# EAGLE library part N25Q064A13ESE40E (library micron-flash)
8-SOIC NMOSFET
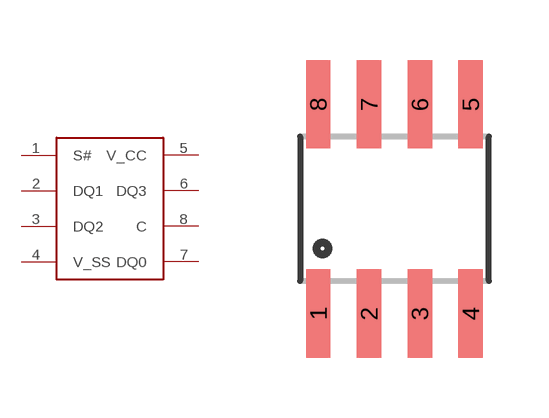
[diagram p0: symbol with the pads of SOIC08; footprint SOIC08]

Designator prefix -

## N25Q064A13ESE40E  [SOIC08]
1  S#
2  DQ1
3  DQ2
4  V_SS
5  V_CC
6  DQ3
7  DQ0
8  C

## Footprint SOIC08 (pad centres in mm)
Small Outline Package Fits JEDEC packages (narrow SOIC-8)
smd 0.61 x 2.21: 1 -1.905,-2.616; 2 -0.635,-2.616; 3 0.635,-2.616; 4 1.905,-2.616; 5 1.905,2.616; 6 0.635,2.616; 7 -0.635,2.616; 8 -1.905,2.616